# EAGLE library part ADS1015 (library FCC_parts)
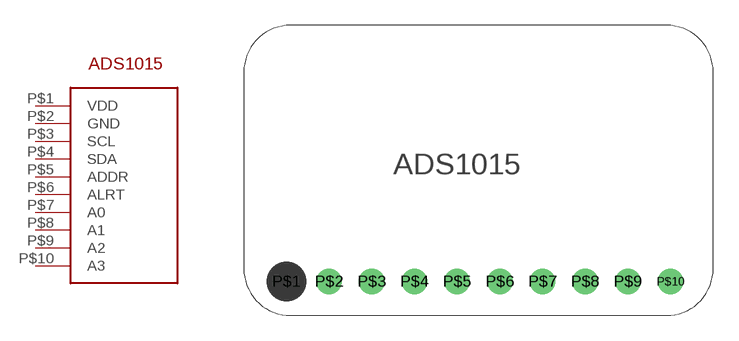
[diagram p7: symbol with the pads of ADS1015; footprint ADS1015]

Designator prefix -

## ADS1015  [ADS1015]
P$1  VDD
P$2  GND
P$3  SCL
P$4  SDA
P$5  ADDR
P$6  ALRT
P$7  A0
P$8  A1
P$9  A2
P$10  A3

## Footprint ADS1015 (pad centres in mm)
drill 1.016: P$1 -11.43,0; P$2 -8.89,0; P$3 -6.35,0; P$4 -3.81,0; P$5 -1.27,0; P$6 1.27,0; P$7 3.81,0; P$8 6.35,0; P$9 8.89,0; P$10 11.43,0